# Altium schematic symbol library SN74LVC8T245QPWRQ1.SchLib: 1 symbol
Pins are listed as number, name and electrical type; pins without a type are passive.

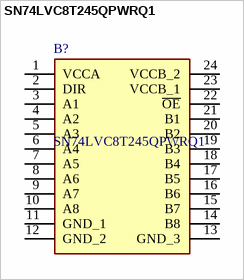
[diagram p0: symbol SN74LVC8T245QPWRQ1]

## SN74LVC8T245QPWRQ1
designator B?
Automotive 8-Bit Dl-Spply Bus Trans. with Voltage Translation and Three-State Outputs; Manufacturer_Name: Texas Instruments; Geometry.Height: 1.2mm; Mouser Part Number: 595-74LVC8T245QPWRQ1; Mouser Price/Stock: https://www.mouser.co.uk/ProductDetail/Texas-Instruments/SN74LVC8T245QPWRQ1?qs=NiBvnJE4bX3SX2%2FLC%252BdHyQ%3D%3D; Manufacturer_Part_Number: SN74LVC8T245QPWRQ1; Datasheet Link: http://www.ti.com/lit/gpn/sn74lvc8t245-q1
footprint SOP65P640X120-24N
pins: 1 VCCA, 2 DIR, 3 A1, 4 A2, 5 A3, 6 A4, 7 A5, 8 A6, 9 A7, 10 A8, 11 GND_1, 12 GND_2, 13 GND_3, 14 B8, 15 B7, 16 B6, 17 B5, 18 B4, 19 B3, 20 B2, 21 B1, 22 ~{OE}, 23 VCCB_1, 24 VCCB_2